# Altium schematic symbol library Supply.SchLib: 7 symbols
Pins are listed as number, name and electrical type; pins without a type are passive.

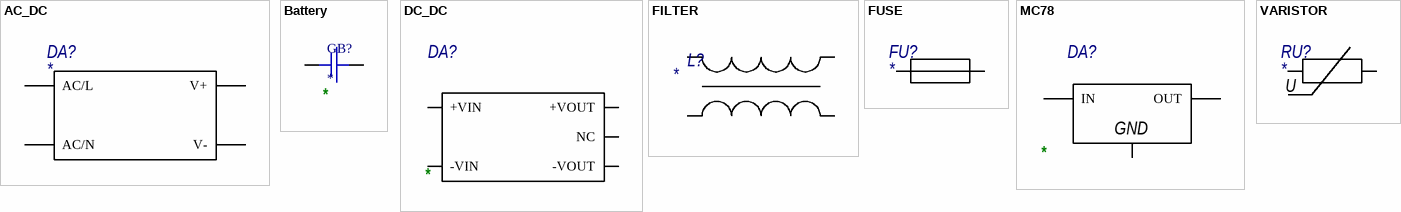
[diagram p0: symbols AC_DC to VARISTOR]

## AC_DC
designator DA?
ValueManufacturer: *; ValueManufacturerPartNumber: *; ValueType: *
pins: AC/L (power), AC/N (power), V+ (power), V- (power)

## Battery
designator GB?
ValueManufacturer: *; ValueManufacturerPartNumber: *; ValueType: *; Value: *
pins: +, -

## DC_DC
designator DA?
ValueManufacturer: *; ValueType: *; ValueManufacturerPartNumber: *
pins: +VIN (power), +VOUT (power), -VIN (power), -VOUT (power), NC (power)

## FILTER
designator L?
pins: 1 (power), 2 (power), 3 (power), 4 (power)

## FUSE
designator FU?
pins: 1, 2

## MC78
designator DA?
ValueManufacturer: *; ValueType: *; ValueManufacturerPartNumber: *
pins: GND (power), IN (power), OUT (power)

## VARISTOR
designator RU?
pins: 1, 2
text: U